# Altium footprint library Conn_JST_BM12B-SRSS-TB_LF_SN_eec_0.PcbLib: 1 footprints
Each footprint in its own frame and in the unit in brackets; x right, y up, seen from the top. Pads: shape width x height; smd on the part's side, far side on the other; paste and mask are expansions set on the pad; w line width, h text height; cw(c..) or ccw(c..) is an arc to the next point about the centre after c.
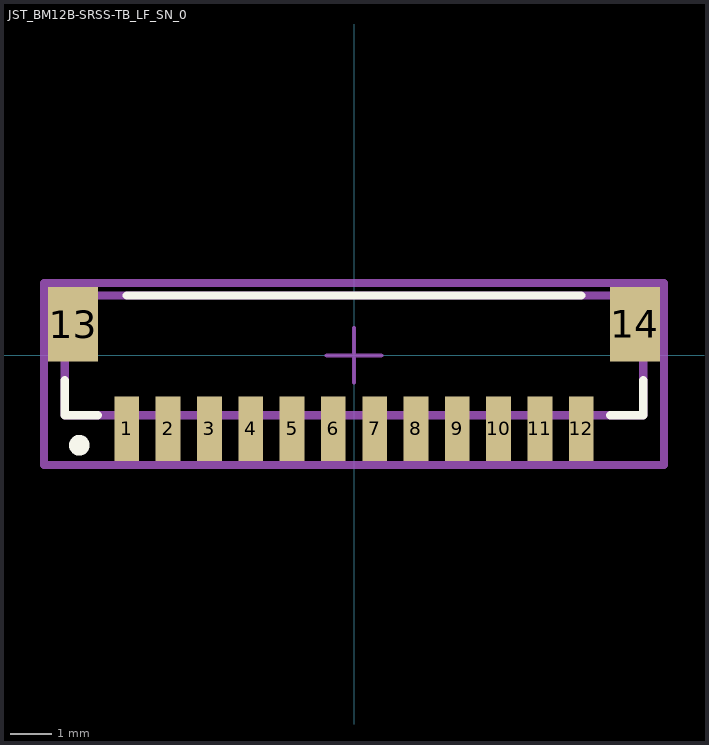
[diagram p0: the footprint, top view; thin cyan lines are the x and y axes]

## JST_BM12B-SRSS-TB_LF_SN_0 [mm]
pads (14):
  rect 0.6x1.55 smd paste+0 mask+0: 1(-5.5,-1.775) 2(-4.5,-1.775) 3(-3.5,-1.775) 4(-2.5,-1.775) 5(-1.5,-1.775) 6(-0.5,-1.775) 7(0.5,-1.775) 8(1.5,-1.775) 9(2.5,-1.775) 10(3.5,-1.775) 11(4.5,-1.775) 12(5.5,-1.775)
  rect 1.2x1.8 smd paste+0 mask+0: 13(-6.8,0.75) 14(6.8,0.75)
Top Overlay:
  circle w0.25: c-6.65,-2.175 r0.125
  lines w0.2: -7,-0.6 -7,-1.45 -6.2,-1.45 ; -5.5,1.45 5.5,1.45 ; 6.2,-1.45 7,-1.45 7,-0.6
Mechanical 10:
  lines w0.2: -7.5,-2.65 7.5,-2.65 7.5,1.75 -7.5,1.75 -7.5,-2.65
  text ".Designator" at 0,-0.45 h1
Mechanical 12:
  lines w0.2: -7,-1.45 7,-1.45 7,1.45 -7,1.45 -7,-1.45
Mechanical 15:
  lines w0.1: -0.66,0 0.66,0 ; 0,-0.66 0,0.66
  lines w0.2: -7.5,-2.65 7.5,-2.65 7.5,1.75 -7.5,1.75 -7.5,-2.65
3D body "Conn_JST_BM12B-SRSS-TB_LF_SN_eec.STEP": height 0.25, standoff 0, extent -7.5,-2.65 7.5,1.75